# Altium footprint library SamacSys.PcbLib: 3 footprints
Each footprint in its own frame and in the unit in brackets; x right, y up, seen from the top. Pads: shape width x height; smd on the part's side, far side on the other; paste and mask are expansions set on the pad; w line width, h text height; cw(c..) or ccw(c..) is an arc to the next point about the centre after c.
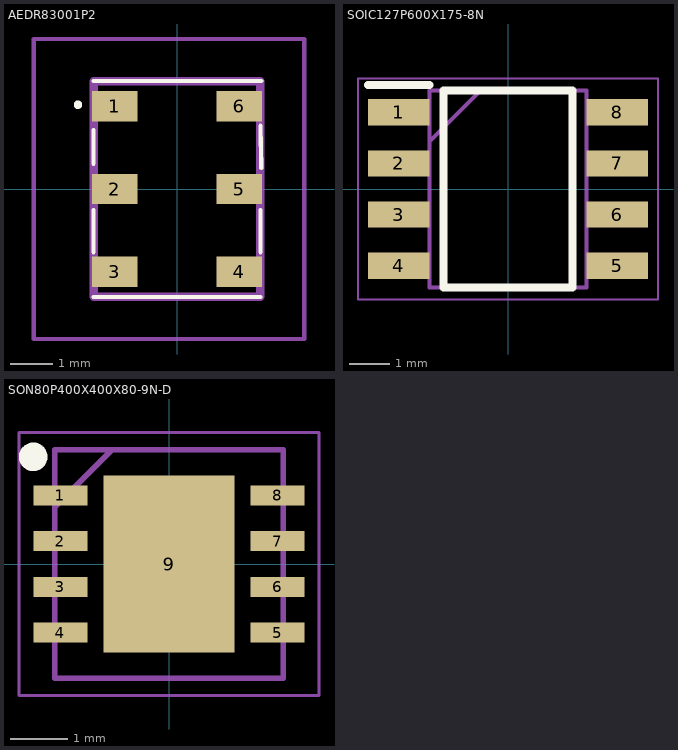
[diagram p0: the footprints below, top view; thin cyan lines are the x and y axes]

## AEDR83001P2 [mm]
pads (6):
  rect 1.08x0.72 smd: 1(-1.48,1.96) 2(-1.48,0) 3(-1.48,-1.96) 4(1.48,-1.96) 5(1.48,0) 6(1.48,1.96)
Top Overlay:
  lines w0.1: -1.98,-2.56 1.98,-2.56 ; -1.98,-1.5 -1.98,-0.5 ; -1.98,0.6 -1.98,1.4 ; -1.98,2.56 2,2.56 ; 1.98,-1.5 1.98,-0.5 ; 1.98,1.5 2,0.5 ; -2.4,2 cw(c-2.35,2) -2.3,2 cw(c-2.35,2) -2.4,2
Mechanical 13:
  lines w0.2: -1.98,-2.56 1.98,-2.56 1.98,2.56 -1.98,2.56 -1.98,-2.56
Mechanical 15:
  lines w0.1: -3.4,-3.56 3.02,-3.56 3.02,3.56 -3.4,3.56 -3.4,-3.56
3D body "AEDR-8300-1P2.stp": height 1.88, standoff 0, extent -1.98,-2.56 1.98,2.56

## SOIC127P600X175-8N [mm]
pads (8):
  rect 1.525x0.65 smd: 1(-2.712,1.905) 2(-2.712,0.635) 3(-2.712,-0.635) 4(-2.712,-1.905) 5(2.712,-1.905) 6(2.712,-0.635) 7(2.712,0.635) 8(2.712,1.905)
Top Overlay:
  lines w0.2: -3.475,2.58 -1.95,2.58 ; -1.6,-2.45 1.6,-2.45 1.6,2.45 -1.6,2.45 -1.6,-2.45
Mechanical 13:
  lines w0.1: -1.95,1.18 -0.68,2.45 ; -1.95,-2.45 1.95,-2.45 1.95,2.45 -1.95,2.45 -1.95,-2.45
Mechanical 15:
  lines w0.05: -3.725,-2.75 3.725,-2.75 3.725,2.75 -3.725,2.75 -3.725,-2.75
3D body "NE555DR.stp": height 1.75, standoff 0, extent -3,-2.45 3,2.45

## SON80P400X400X80-9N-D [mm]
pads (9):
  rect 0.95x0.35 smd: 1(-1.9,1.2) 2(-1.9,0.4) 3(-1.9,-0.4) 4(-1.9,-1.2) 5(1.9,-1.2) 6(1.9,-0.4) 7(1.9,0.4) 8(1.9,1.2)
  rect 2.3x3.1 smd: 9(0,0)
Top Overlay:
  circle w0.25: c-2.375,1.875 r0.125
Mechanical 13:
  lines w0.1: -2,1 -1,2 ; -2,-2 2,-2 2,2 -2,2 -2,-2
Mechanical 15:
  lines w0.05: -2.625,-2.3 2.625,-2.3 2.625,2.3 -2.625,2.3 -2.625,-2.3
3D body "TLV1117-33IDRJRG4.stp": height 0.8, standoff 0, extent -2.05,-2 2.05,2